# Altium footprint library n21-p2.PcbLib: 36 footprints (part 3 of 3)
Each footprint in its own frame and in the unit in brackets; x right, y up, seen from the top. Pads: shape width x height; smd on the part's side, far side on the other; paste and mask are expansions set on the pad; w line width, h text height; cw(c..) or ccw(c..) is an arc to the next point about the centre after c.
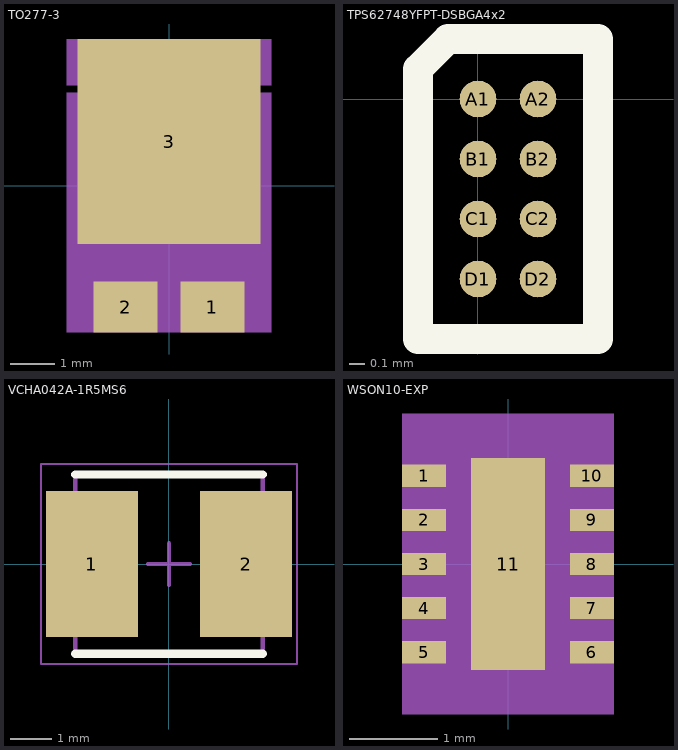
[diagram p2: the footprints below, top view; thin cyan lines are the x and y axes]

## TO277-3 [mm]
pads (3):
  rect 1.45x1.15 smd: 1(0.985,-2.75) 2(-0.985,-2.75)
  rect 4.15x4.65 smd: 3(0,1)
Top Paste:
  dashed: -0.275,-1.325 -0.275,0.675 -2.075,0.675 -2.075,-1.325
  dashed: -0.275,1.325 -0.275,3.325 -2.075,3.325 -2.075,1.325
  dashed: 2.075,-1.325 2.075,0.675 0.275,0.675 0.275,-1.325
  dashed: 2.075,1.325 2.075,3.325 0.275,3.325 0.275,1.325
Mechanical 19:
  text "2" at -0.985,-2.67 h0.2
  text "1" at 0.985,-2.67 h0.2
  text "3" at 0,1.08 h0.2
Top Assembly:
  pour cut-out: -2.315,-3.325 -2.315,2.107 2.315,2.107 2.315,-3.325
  pour cut-out: -2.315,2.281 -2.315,3.325 2.315,3.325 2.315,2.281
3D body "TO277-3.stp": height 1.2, standoff 0, extent -2.315,-3.325 2.315,3.325

## TPS62748YFPT-DSBGA4x2 [mm]
pads (8):
  round 0.245 smd: A1(0,0) A2(0.4,0) B1(0,-0.4) B2(0.4,-0.4) C1(0,-0.8) C2(0.4,-0.8) D1(0,-1.2) D2(0.4,-1.2)
Top Overlay:
  lines w0.2: -0.4,-1.6 0.8,-1.6 0.8,0.4 -0.2,0.4 -0.4,0.2 -0.4,-1.6
3D body: height 0.69, standoff 0, extent -0.3,-1.5 0.7,0.3

## VCHA042A-1R5MS6 [mm] "1.5uH Precision Wire Wound Inductor, 2-Leads, Body 4.20x4.00mm, IPC Medium Density"
height 2.1
pads (2):
  rect 2.2x3.5 smd: 1(-1.85,0) 2(1.85,0)
Top Overlay:
  lines w0.2: -2.25,-2.15 2.25,-2.15 ; -2.25,2.15 2.25,2.15
Mechanical 15:
  lines w0.05: -3.075,-2.4 3.075,-2.4 3.075,2.4 -3.075,2.4 -3.075,-2.4
  lines w0.1: -0.5,0 0.5,0 ; 0,-0.5 0,0.5
Top Assembly:
  lines w0.1: -2.25,-2.15 2.25,-2.15 2.25,2.15 -2.25,2.15 -2.25,-2.15
3D body "VCHA042A-1R5MS6.step": height 2.2, standoff 0, extent -2.2,-2 2.2,2

## WSON10-EXP [mm]
pads (11):
  rect 0.5x0.25 smd: 1(-0.95,1) 2(-0.95,0.5) 3(-0.95,0) 4(-0.95,-0.5) 5(-0.95,-1) 6(0.95,-1) 7(0.95,-0.5) 8(0.95,0) 9(0.95,0.5) 10(0.95,1)
  rect 0.84x2.4 smd: 11(0,0)
Top Paste:
  dashed: -0.12,0.2 -0.12,1.2 -0.42,1.2 -0.42,0.2
  dashed: 0.42,0.2 0.42,1.2 0.12,1.2 0.12,0.2
  dashed: -0.12,-1.2 -0.12,-0.2 -0.42,-0.2 -0.42,-1.2
  dashed: 0.42,-1.2 0.42,-0.2 0.12,-0.2 0.12,-1.2
Top 3D Body:
  region: -1.2,1.7 -1.2,-1.7 1.2,-1.7 1.2,1.7
Mechanical 26:
  text "8" at 0.95,0.08 h0.2
  text "5" at -0.95,-0.92 h0.2
  text "4" at -0.95,-0.42 h0.2
  text "6" at 0.95,-0.92 h0.2
  text "7" at 0.95,-0.42 h0.2
  text "2" at -0.95,0.58 h0.2
  text "1" at -0.95,1.08 h0.2
  text "3" at -0.95,0.08 h0.2
  text "11" at 0,0.16 h0.2
  text "10" at 0.95,1.16 h0.2
  text "9" at 0.95,0.58 h0.2
Top Assembly:
  dashed: -1.2,-1.7 -1.2,1.7 1.2,1.7 1.2,-1.7
  pour cut-out: 1,-1.5 -1,-1.5 -1,1.5 1,1.5
  dashed: -0.69,0.808 -0.611,0.824 -0.545,0.868 -0.501,0.934 -0.486,1.012 -0.501,1.09 -0.516,1.112 -0.545,1.156 -0.611,1.201 -0.69,1.216 -0.768,1.201 -0.834,1.156 -0.863,1.112 -0.878,1.09 -0.893,1.012 -0.878,0.934 -0.834,0.868 -0.768,0.824
3D body "WSON10-EXP.stp": height 0.8, standoff 0, extent -1,-1.5 1,1.5